# Altium schematic symbol library AD8565.Schlib: 1 symbol
Pins are listed as number, name and electrical type; pins without a type are passive.

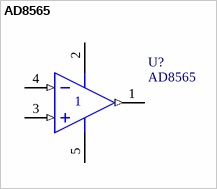
[diagram p0: symbol AD8565]

## AD8565
designator U?
Single Rail-to-Rail I/O Operational Amplifier
pins: 1 OUT (out), 2 V+ (power), 3 IN+ (in), 4 IN- (in), 5 V- (power)